# EAGLE library part ID-12 (library Johnboiles)
ID-12 125KHz RFID Reader
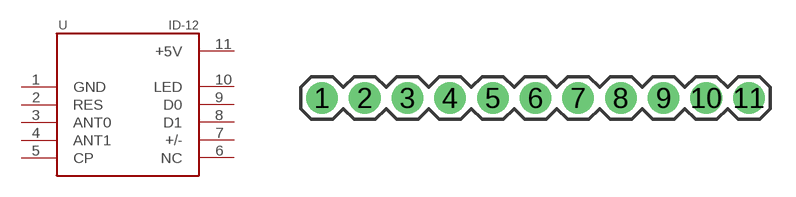
[diagram p0: symbol with the pads of 1X11; footprint 1X11]

Designator prefix -

## ID-12  [1X11]
1  GND
2  RES
3  ANT0
4  ANT1
5  CP
6  NC
7  +/-
8  D1
9  D0
10  LED
11  +5V

## Footprint 1X11 (pad centres in mm)
drill 1.016 pad 1.88: 1 0,0; 2 2.54,0; 3 5.08,0; 4 7.62,0; 5 10.16,0; 6 12.7,0; 7 15.24,0; 8 17.78,0; 9 20.32,0; 10 22.86,0; 11 25.4,0